# Altium schematic symbol library CAP-SM-0603-X7R-100nF-16V.Schlib: 1 symbol
Pins are listed as number, name and electrical type; pins without a type are passive.

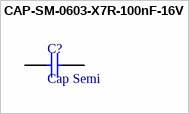
[diagram p0: symbol CAP-SM-0603-X7R-100nF-16V]

## CAP-SM-0603-X7R-100nF-16V
designator C?, comment Cap Semi
CAP SM 0603 X7R 100nF 10% 16V
pins: 1, 2